# Altium integrated library C0720B001F.IntLib: 1 symbol
Pins are listed as number, name and electrical type; pins without a type are passive.

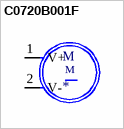
[diagram p0: symbol C0720B001F]

## C0720B001F
designator M
DC Motor Vibration, ERM 10000 RPM 3VDC; MP: C0720B001F; MF: Jinlong Machinery; Availability: Unavailable; SnapEDA_Link: https://www.snapeda.com/parts/C0720B001F/Jinlong%20Machinery%20%26%20Electronics%2C%20Inc./view-part/645169/?ref=snap; Value: *; Price: None; Package: Jinlong Machinery
footprint XDCR_C0720B001F
pins: 1 V+ (power), 2 V- (power)